# Altium schematic symbol library SCH - HEADERS - Amphenol - 95278-501A10LF.SchLib: 1 symbol
Pins are listed as number, name and electrical type; pins without a type are passive.

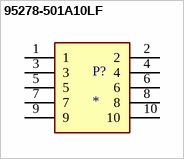
[diagram p0: symbol 95278-501A10LF]

## 95278-501A10LF
designator P?
Connector; Manufacturer_Name: Amphenol; Manufacturer_Part_Number: 95278-501A10LF; Description: Headers & Wire Housings BERGSTIK; Datasheet Link: https://componentsearchengine.com/Datasheets/1/95278-501A10LF.pdf; Height: 8.77mm; Mouser Part Number: 649-95278-501A10LF; Mouser Price/Stock: https://www.mouser.co.uk/ProductDetail/Amphenol-FCI/95278-501A10LF?qs=TXMzd3F6EylobVXJVHgo1Q%3D%3D
pins: 1, 2, 3, 4, 5, 6, 7, 8, 9, 10